# Altium schematic symbol library XTAL-4.SchLib: 1 symbol
Pins are listed as number, name and electrical type; pins without a type are passive.

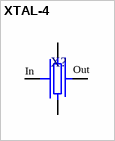
[diagram p0: symbol XTAL-4]

## XTAL-4
designator X?
pins: 1 In, 2 GND, 3 Out, 4 GND